# EAGLE library part ARDUINO-NANO-3.0 (library common)
Arduino Nano 3.0 and compatible devices More details available here: https://www.arduino.cc/en/Main/ArduinoBoardNano Click here to find device on ebay.com <http://www.ebay.com/sch/arduino+nano>
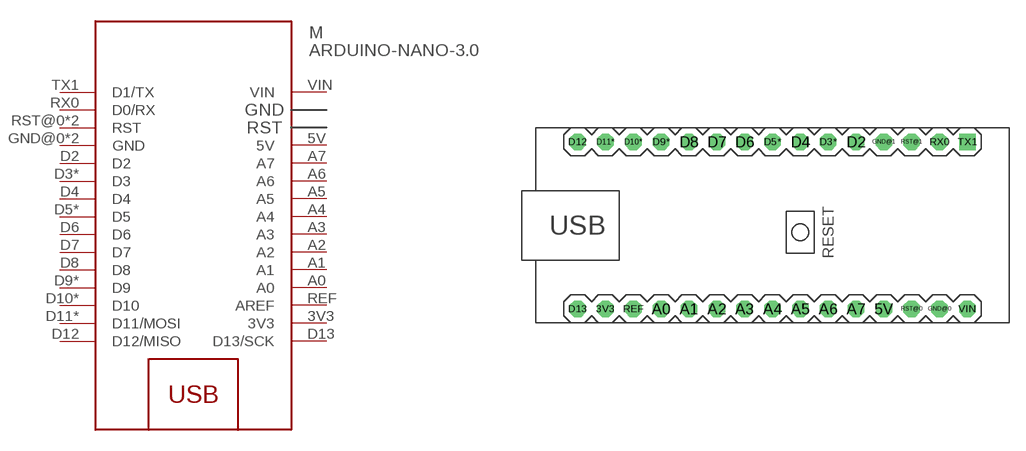
[diagram p4: symbol with the pads of ARDUINO-NANO-3.0; footprint ARDUINO-NANO-3.0]

Designator prefix M

## ARDUINO-NANO-3.0  [ARDUINO-NANO-3.0]
3V3  3V3  pwr
5V  5V  pwr
A0  A0
A1  A1
A2  A2
A3  A3
A4  A4
A5  A5
A6  A6
A7  A7
D2  D2
D3*  D3
D4  D4
D5*  D5
D6  D6
D7  D7
D8  D8
D9*  D9
D10*  D10
D11*  D11/MOSI
D12  D12/MISO
D13  D13/SCK
GND@0  GND  pwr
GND@1  GND  pwr
REF  AREF
RST@0  RST
RST@1  RST
RX0  D0/RX
TX1  D1/TX
VIN  VIN  pwr

## Footprint ARDUINO-NANO-3.0 (pad centres in mm)
Arduino Nano 3.0
drill 1 octagon: 3V3 -15.24,-7.62; 5V 10.16,-7.62; A0 -10.16,-7.62; A1 -7.62,-7.62; A2 -5.08,-7.62; A3 -2.54,-7.62; A4 0,-7.62; A5 2.54,-7.62; A6 5.08,-7.62; A7 7.62,-7.62; D2 7.62,7.62; D3* 5.08,7.62; D4 2.54,7.62; D5* 0,7.62; D6 -2.54,7.62; D7 -5.08,7.62; D8 -7.62,7.62; D9* -10.16,7.62; D10* -12.7,7.62; D11* -15.24,7.62; D12 -17.78,7.62; D13 -17.78,-7.62; GND@0 15.24,-7.62; GND@1 10.16,7.62; REF -12.7,-7.62; RST@0 12.7,-7.62; RST@1 12.7,7.62; RX0 15.24,7.62; VIN 17.78,-7.62
drill 1 square: TX1 17.78,7.62